# Altium footprint library KT-93 (SMD-0,5).PcbLib: 1 footprints
Each footprint in its own frame and in the unit in brackets; x right, y up, seen from the top. Pads: shape width x height; smd on the part's side, far side on the other; paste and mask are expansions set on the pad; w line width, h text height; cw(c..) or ccw(c..) is an arc to the next point about the centre after c.
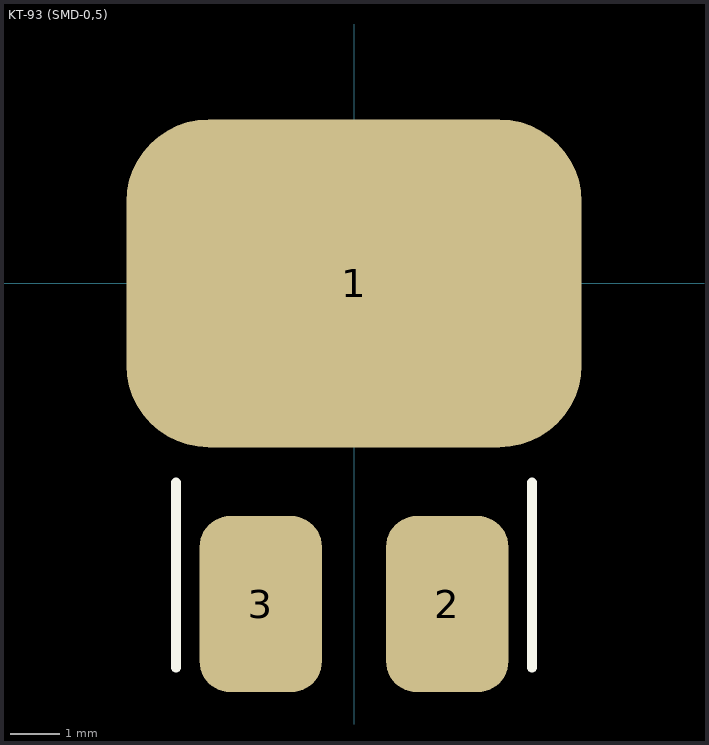
[diagram p0: the footprint, top view; thin cyan lines are the x and y axes]

## KT-93 (SMD-0,5) [mm]
pads (3):
  rrect50% 9.3x6.7 smd: 1(0,0)
  rrect50% 2.5x3.6 smd: 2(1.905,-6.55) 3(-1.905,-6.55)
Top Overlay:
  lines w0.2: -3.636,-7.852 -3.636,-4.064 ; 3.636,-7.852 3.636,-4.064
3D body "IR_SMD_0_5.STEP": height 3.1, standoff -0.02, extent -3.76,-8.128 3.76,2.032